# Altium footprint library 语音板4次.PcbLib: 19 footprints (part 2 of 2)
Each footprint in its own frame and in the unit in brackets; x right, y up, seen from the top. Pads: shape width x height; smd on the part's side, far side on the other; paste and mask are expansions set on the pad; w line width, h text height; cw(c..) or ccw(c..) is an arc to the next point about the centre after c.
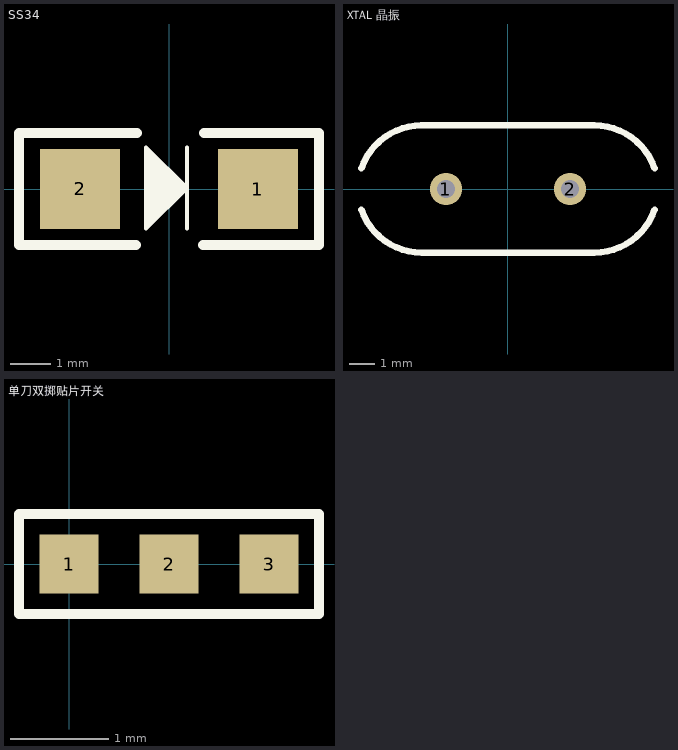
[diagram p1: the footprints below, top view; thin cyan lines are the x and y axes]

## SS34 [mm]
pads (2):
  rect 2x2 smd: 1(2.222,-0.001) 2(-2.222,0.001)
Top Overlay:
  region: -0.571,1.04 0.445,0.024 -0.571,-0.992
  lines w0.1: 0.445,-0.992 0.445,0.024 ; 0.445,1.04 0.445,0.024 ; 0.445,0.024 -0.571,-0.992 -0.571,1.04 0.445,0.024
  lines w0.254: -0.83,-1.394 -3.746,-1.394 -3.746,1.396 -0.8,1.396 ; 0.855,-1.394 3.746,-1.394 3.746,1.396 0.876,1.396

## XTAL 晶振 [mil]
pads (2):
  round 50 hole 28: 1(-96.06,0) 2(96.06,0)
Top Overlay:
  lines w10: -226.99,-31.85 ccw(c-133.86,0) -133.86,-98.42 ; -226.99,31.85 cw(c-133.86,0) -133.86,98.43 ; -134.06,98.42 133.86,98.43 cw(c133.86,0) 226.99,31.85 ; -133.86,-98.43 133.86,-98.42 ccw(c133.86,0) 226.99,-31.85

## 单刀双掷贴片开关 [mm]
pads (3):
  rect 0.6x0.6 smd: 1(0,0) 2(1.016,0) 3(2.032,0)
Top Overlay:
  lines w0.1: -0.508,-0.508 -0.508,0.508 2.54,0.508 2.54,-0.508 -0.508,-0.508